# EAGLE library part M25P*-V? (library ic-Micron)
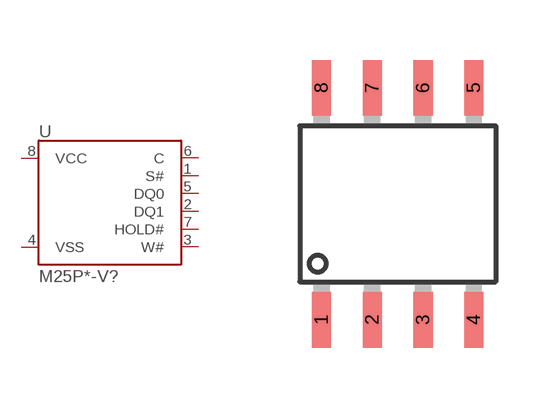
[diagram p1: symbol with the pads of SOP8; footprint SOP8]

Designator prefix U

## M25P128-VMN (DENSITY: 128Mb), M25P16-VMN (DENSITY: 16Mb), M25P40-VMN (DENSITY: 4Mb), M25P64-VMN (DENSITY: 64Mb), M25P80-VMN (DENSITY: 8Mb)  [SOP8]
1  S#  in
2  DQ1  out
3  W#  in
4  VSS
5  DQ0  in
6  C  in
7  HOLD#  in
8  VCC

## Footprint SOP8 (pad centres in mm)
smd 0.48 x 1.4: 1 -1.905,-2.9; 2 -0.635,-2.9; 3 0.635,-2.9; 4 1.905,-2.9; 5 1.905,2.9; 6 0.635,2.9; 7 -0.635,2.9; 8 -1.905,2.9